# Altium schematic symbol library MAX17330X22+.SchLib: 1 symbol
Pins are listed as number, name and electrical type; pins without a type are passive.

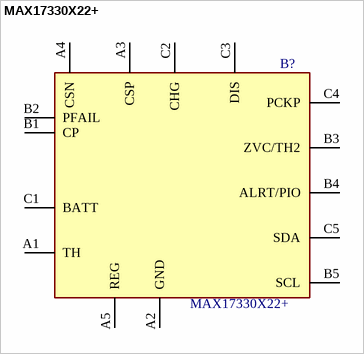
[diagram p0: symbol MAX17330X22+]

## MAX17330X22+
designator B?
Battery Management 1 Cell Fuel Gauge with ModelGauge m5 EZ, Charger, Protector and SHA-256 Authentication; Manufacturer_Name: Analog Devices; Geometry.Height: 0.69mm; Mouser Part Number: 700-MAX17330X22+; Mouser Price/Stock: https://www.mouser.co.uk/ProductDetail/Maxim-Integrated/MAX17330X22%2b?qs=Jslch3jnSjlOoJCBX3FFdw%3D%3D; Manufacturer_Part_Number: MAX17330X22+; Datasheet Link: https://datasheets.maximintegrated.com/en/ds/MAX17330.pdf
footprint BGA15C50P5X3_245X191X69
pins: A1 TH, A2 GND, A3 CSP, A4 CSN, A5 REG, B1 CP, B2 PFAIL, B3 ZVC/TH2, B4 ALRT/PIO, B5 SCL, C1 BATT, C2 CHG, C3 DIS, C4 PCKP, C5 SDA